# Altium schematic symbol library 22uH-Inductor.SchLib: 2 symbols
Pins are listed as number, name and electrical type; pins without a type are passive.

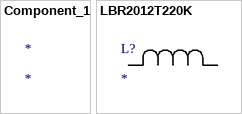
[diagram p0: symbols Component_1 to LBR2012T220K]

## Component_1
designator *

## LBR2012T220K
designator L?
Imported; Manufacturer_Part_Number: LBR2012T220K; Vendor: TAIYO YUDEN; Built_By: EMA_UL_Team; Type: DEV; C: Copyright (C) 2015 Accelerated Designs. All rights reserved; RefDes: RefDes; Value: Value
footprint IND_TAIYO_LBR201
pins: 1, 2